# EAGLE library part PUSH-SWITCH (library zort-library)
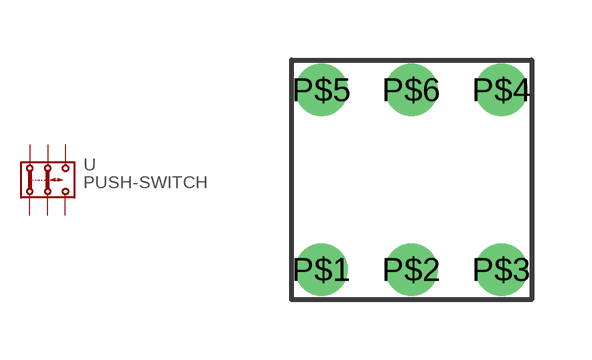
[diagram p0: symbol with the pads of PUSH-SWITCH; footprint PUSH-SWITCH]

Designator prefix -

## PUSH-SWITCH  [PUSH-SWITCH]
P$1  1.2  pas
P$2  2.2  pas
P$3  3.2  pas
P$4  3.1  pas
P$5  1.1  pas
P$6  2.1  pas

## Footprint PUSH-SWITCH (pad centres in mm)
drill 0.8: P$1 0.75,0.75; P$2 3,0.75; P$3 5.25,0.75; P$4 5.25,5.25; P$5 0.75,5.25; P$6 3,5.25